# Altium footprint library resSmd.PcbLib: 25 footprints (part 1 of 2)
Each footprint in its own frame and in the unit in brackets; x right, y up, seen from the top. Pads: shape width x height; smd on the part's side, far side on the other; paste and mask are expansions set on the pad; w line width, h text height; cw(c..) or ccw(c..) is an arc to the next point about the centre after c.
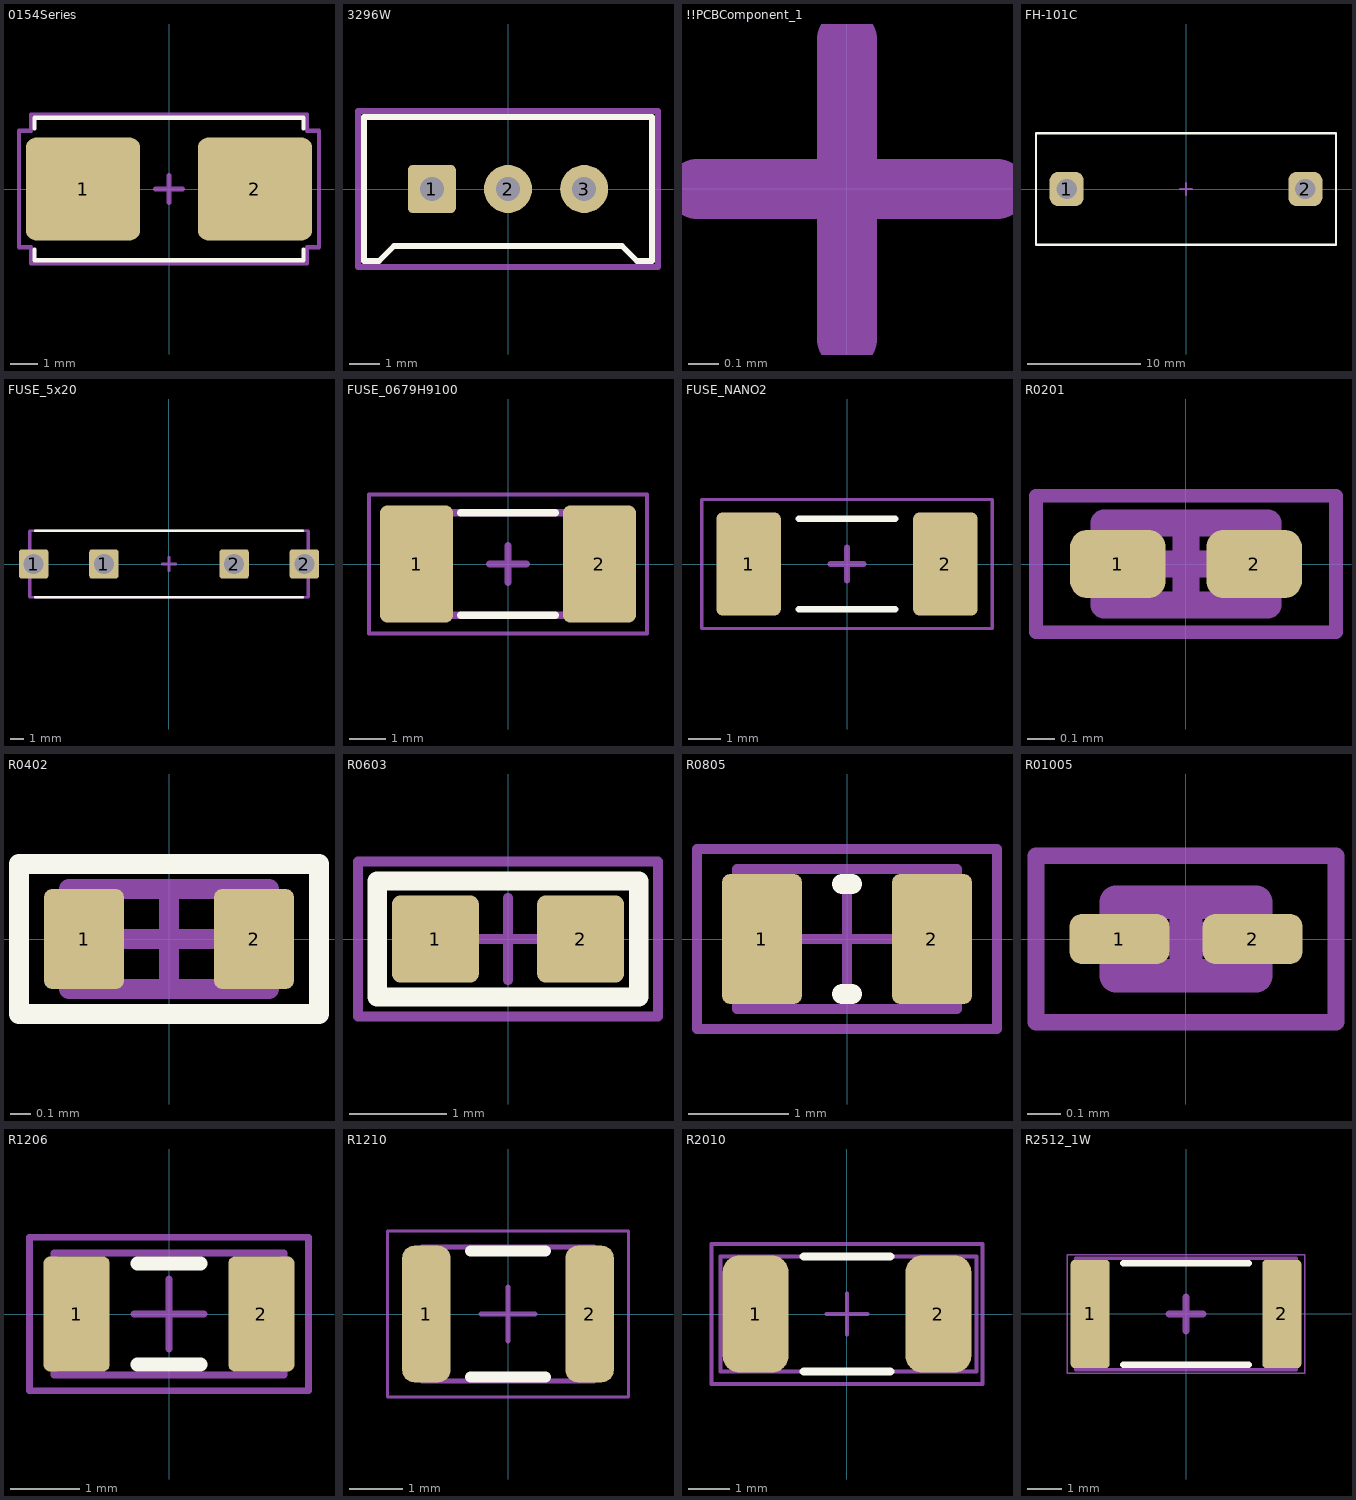
[diagram p0: the footprints below, top view; thin cyan lines are the x and y axes]

## 0154Series [mil] "0154010.DR"
pads (2):
  rrect20% 167x150 smd: 1(-125.5,0) 2(125.5,0)
Top Overlay:
  lines w6: -196.5,-88.1 -196.5,-104 196.5,-104 196.5,-88.1 ; -196.5,88.1 -196.5,104 196.5,104 196.5,88.1
M3_comm_top:
  text ".comment" at -35.43,-11.81 h39.37
M5_asm_top:
  text ".Designator" at -39.37,51.18 h39.37
M7_courtyard_top:
  lines w7.87: -19.68,0 19.69,0 ; 0,-19.69 0,19.68
Mechanical 15:
  lines w6: -219,-85 -201.5,-85 -201.5,-109 201.5,-109 201.5,-85 219,-85 219,85 201.5,85 201.5,109 -201.5,109 -201.5,85 -219,85 -219,-85
3D body "Littlefuse 0154 Holder and Fuse.STEP": height 147.08, standoff 1.41, extent -190.94,-98.42 190.95,98.43

## 3296W [mm] "3296W-1-205LF"
height 0.9
pads (3):
  rrect20% 1.6x1.6 hole 0.8: 1(-2.54,0)
  round 1.6 hole 0.8: 2(0,0) 3(2.54,0)
Top Overlay:
  lines w0.2: -4.8,-2.4 -4.8,2.4 4.8,2.4 4.8,-2.4 4.3,-2.4 3.8,-1.9 -3.8,-1.9 -4.3,-2.4 -4.8,-2.4
M3_comm_top:
  text ".comment" at -0.9,-0.3 h1
M5_asm_top:
  lines w0.1: -4.8,-2.4 -4.8,2.4 4.8,2.4 4.8,-2.4 4.3,-2.4 3.8,-1.9 -3.8,-1.9 -4.3,-2.4 -4.8,-2.4
  text ".Designator" at -1,1.3 h1
M7_courtyard_top:
  lines w0.2: -0.5,0 0.5,0 ; 0,-0.5 0,0.5 ; -5,-2.6 -5,2.6 5,2.6 5,-2.6 -5,-2.6
3D body "User Library-Trimming Potentiometer Vertical 3296W 504 - 500k.step": height 11.67, standoff -6.36, extent -4.765,-2.415 4.765,2.415

## !!PCBComponent_1 [mm]
M3_comm_top:
  text ".comment" at -0.9,-0.3 h1
M5_asm_top:
  text ".Designator" at -1,1.3 h1
M7_courtyard_top:
  lines w0.2: -0.5,0 0.5,0 ; 0,-0.5 0,0.5

## FH-101C [mm] "0.5W"
height 0.9
pads (2):
  rrect50% 3x3 hole 1.8: 1(-10.5,0) 2(10.5,0)
Top Overlay:
  lines w0.2: -13.2,-4.9 13.2,-4.9 13.2,4.9 -13.2,4.9 -13.2,-4.9
M3_comm_top:
  text ".comment" at -0.9,-0.3 h1
M5_asm_top:
  text ".Designator" at -1,1.3 h1
M7_courtyard_top:
  lines w0.2: -0.5,0 0.5,0 ; 0,-0.5 0,0.5
Mechanical 13:
  lines w0.1: -13.2,-4.9 13.2,-4.9 13.2,4.9 -13.2,4.9 -13.2,-4.9
Mechanical 15:
  lines w0.05: -13.2,-4.9 13.2,-4.9 13.2,4.9 -13.2,4.9 -13.2,-4.9
  lines w0.1: -0.5,0 0.5,0 ; 0,-0.5 0,0.5
3D body "FH-101C.step": height 13.4, standoff -3, extent -13.25,-4.9 13.25,4.9

## FUSE_5x20 [mm]
height 0.025
pads (4):
  rrect20% 2.2x2.2 hole 1.5 mask+0.05: 1(-10.125,0) 1(-4.875,0) 2(4.875,0) 2(10.125,0)
Top Overlay:
  lines w0.2: -10,-2.5 10,-2.5 ; -10,2.5 10,2.5
M3_comm_top:
  text ".comment" at -0.9,-0.3 h1
M5_asm_top:
  lines w0.2: -10.4,-2.5 -10.4,2.5 10.4,2.5 10.4,-2.5 -10.4,-2.5
  text ".Designator" at -1,1.4 h1
M7_courtyard_top:
  lines w0.1: -10.5,-2.5 10.5,-2.5 10.5,2.5 -10.5,2.5 -10.5,-2.5
  lines w0.2: -0.5,0 0.5,0 ; 0,-0.5 0,0.5
Mechanical 15:
  lines w0.1: -0.5,0 0.5,0 ; 0,-0.5 0,0.5
3D body "User Library-Clips FH-100 with fuse 5x20.STEP": height 9.99, standoff -3.5, extent -10.4,-3.5 10.4,3.5

## FUSE_0679H9100 [mm] "0679H9100"
height 0.025
pads (2):
  rrect20% 2x3.2 smd mask+0.152: 1(-2.5,0) 2(2.5,0)
Top Overlay:
  lines w0.2: -1.3,-1.4 1.3,-1.4 ; -1.3,1.4 1.3,1.4
M3_comm_top:
  text ".comment" at -0.9,-0.3 h1
M5_asm_top:
  lines w0.2: -2.5,-1.4 2.5,-1.4 2.5,1.4 -2.5,1.4 -2.5,-1.3
  text ".Designator" at -1,1.4 h1
M7_courtyard_top:
  lines w0.1: -3.8,-1.9 -3.8,1.9 3.8,1.9 3.8,-1.9 -3.8,-1.9
  lines w0.2: -0.5,0 0.5,0 ; 0,-0.5 0,0.5
Mechanical 15:
  lines w0.1: -0.5,0 0.5,0 ; 0,-0.5 0,0.5
3D body "User Library-FUSE_NANO2.step": height 2.7, standoff 0, extent -3.05,-1.35 3.05,1.35

## FUSE_NANO2 [mm]
height 0.025
pads (2):
  rrect20% 2x3.2 smd mask+0.152: 1(-3.05,0) 2(3.05,0)
Top Overlay:
  lines w0.2: -1.5,-1.4 1.5,-1.4 ; -1.5,1.4 1.5,1.4
M3_comm_top:
  text ".comment" at -0.9,-0.3 h1
M5_asm_top:
  text ".Designator" at -1,1.3 h1
M7_courtyard_top:
  lines w0.2: -0.5,0 0.5,0 ; 0,-0.5 0,0.5
Mechanical 15:
  lines w0.1: -0.5,0 0.5,0 ; 0,-0.5 0,0.5 ; -4.5,-2 -4.5,2 4.5,2 4.5,-2 -4.5,-2
3D body "User Library-FUSE_NANO2.step": height 2.7, standoff 0, extent -3.05,-1.35 3.05,1.35

## R0201 [mm] "Chip Resistor, IPC High Density"
height 0.28
pads (2):
  rrect50% 0.35x0.25 smd mask+0.025: 1(-0.25,0) 2(0.25,0)
Mechanical 13:
  lines w0.1: -0.3,-0.15 -0.3,0.15 0.3,0.15 0.3,-0.15 -0.3,-0.15
Mechanical 15:
  lines w0.05: -0.55,-0.25 -0.55,0.25 0.55,0.25 0.55,-0.25 -0.55,-0.25
  lines w0.1: -0.15,0 0.15,0 ; 0,-0.15 0,0.15
3D body: height 0.28, standoff 0, extent -0.12,-0.15 0.12,0.15
3D body: height 0.28, standoff 0, extent -0.3,-0.15 -0.12,0.15
3D body: height 0.28, standoff 0, extent 0.12,-0.15 0.3,0.15

## R0402 [mm] "Chip Resistor, IPC High Density"
height 0.35
pads (2):
  rrect20% 0.4x0.5 smd mask+0.05: 1(-0.425,0) 2(0.425,0)
Top Overlay:
  lines w0.1: -0.75,-0.375 -0.75,0.375 0.75,0.375 0.75,-0.375 -0.75,-0.375
M3_comm_top:
  text ".comment" at -0.5,-0.25 h0.5
M5_asm_top:
  lines w0.1: -0.75,-0.375 -0.75,0.375 0.75,0.375 0.75,-0.375 -0.75,-0.375
  text ".Designator" at -0.7,0.6 h0.5
M7_courtyard_top:
  lines w0.1: -0.25,0 0.25,0 ; 0,-0.25 0,0.25 ; -0.75,-0.375 0.75,-0.375 0.75,0.375 -0.75,0.375 -0.75,-0.375
Mechanical 13:
  lines w0.1: -0.5,-0.25 0.5,-0.25 0.5,0.25 -0.5,0.25 -0.5,-0.25
3D body "-R_0402.step": height 0.35, standoff 0, extent -0.5,-0.25 0.5,0.25

## R0603 [mm] "Chip Resistor, IPC Medium Density"
height 0.5
pads (2):
  rrect20% 0.9x0.9 smd mask+0.05: 1(-0.75,0) 2(0.75,0)
Top Overlay:
  lines w0.2: -1.35,-0.6 -1.35,0.6 1.35,0.6 1.35,-0.6 -1.35,-0.6
M3_comm_top:
  text ".comment" at -0.9,-0.3 h1
M5_asm_top:
  lines w0.1: -1.35,-0.6 1.35,-0.6 1.35,0.6 -1.35,0.6 -1.35,-0.6
  text ".Designator" at -1.525,0.95 h1
M7_courtyard_top:
  lines w0.1: -0.425,0 0.425,0 ; 0,-0.425 0,0.425 ; -1.55,-0.8 1.55,-0.8 1.55,0.8 -1.55,0.8 -1.55,-0.8
3D body "RESC1608.STEP": height 0.5, standoff 0, extent -0.8,-0.4 0.8,0.4

## R0805 [mm] "Chip Resistor, IPC High Density"
height 0.5
pads (2):
  rrect20% 0.8x1.3 smd mask+0.05: 1(-0.85,0) 2(0.85,0)
Top Overlay:
  lines w0.2: -0.05,-0.55 0.05,-0.55 ; -0.05,0.55 0.05,0.55
M3_comm_top:
  text ".comment" at -0.9,-0.3 h1
M5_asm_top:
  lines w0.1: -1.1,-0.7 1.1,-0.7 1.1,0.7 -1.1,0.7 -1.1,-0.7
  text ".Designator" at -1,1.3 h1
M7_courtyard_top:
  lines w0.1: -0.5,0 0.5,0 ; 0,-0.5 0,0.5 ; -1.5,-0.9 1.5,-0.9 1.5,0.9 -1.5,0.9 -1.5,-0.9
3D body "RESC2012.STEP": height 0.5, standoff 0, extent -1,-0.6 1,0.6

## R01005 [mm] "Chip Resistor, IPC High Density"
height 0.15
pads (2):
  rrect50% 0.3x0.15 smd: 1(-0.2,0) 2(0.2,0)
Mechanical 13:
  lines w0.1: -0.21,-0.11 -0.21,0.11 0.21,0.11 0.21,-0.11 -0.21,-0.11
Mechanical 15:
  lines w0.05: -0.45,-0.25 -0.45,0.25 0.45,0.25 0.45,-0.25 -0.45,-0.25
  lines w0.1: -0.11,0 0.11,0 ; 0,-0.11 0,0.11
3D body: height 0.15, standoff 0, extent -0.11,-0.11 0.11,0.11
3D body: height 0.15, standoff 0, extent -0.21,-0.11 -0.11,0.11
3D body: height 0.15, standoff 0, extent 0.11,-0.11 0.21,0.11

## R1206 [mm] "Chip Resistor, IPC High Density"
height 0.6
pads (2):
  rrect20% 0.95x1.65 smd mask+0.05: 1(-1.325,0) 2(1.325,0)
Top Overlay:
  lines w0.2: -0.45,-0.725 0.45,-0.725 ; -0.45,0.725 0.45,0.725
M3_comm_top:
  text ".comment" at -0.9,-0.3 h1
M5_asm_top:
  lines w0.1: -1.65,-0.875 1.65,-0.875 1.65,0.875 -1.65,0.875 -1.65,-0.875
  text ".Designator" at -1,1.3 h1
M7_courtyard_top:
  lines w0.1: -0.5,0 0.5,0 ; 0,-0.5 0,0.5 ; -2,-1.1 2,-1.1 2,1.1 -2,1.1 -2,-1.1
3D body "RESC3216.STEP": height 0.6, standoff 0, extent -1.6,-0.8 1.6,0.8

## R1210 [mm] "1210, IPC Medium Density"
height 0.6
pads (2):
  rrect50% 0.9x2.55 smd: 1(-1.525,0) 2(1.525,0)
Top Overlay:
  lines w0.2: -0.7,-1.175 0.7,-1.175 ; -0.7,1.175 0.7,1.175
Mechanical 13:
  lines w0.1: -1.6,-1.25 -1.6,1.25 1.6,1.25 1.6,-1.25 -1.6,-1.25
Mechanical 15:
  lines w0.05: -2.25,-1.55 -2.25,1.55 2.25,1.55 2.25,-1.55 -2.25,-1.55
  lines w0.1: -0.5,0 0.5,0 ; 0,-0.5 0,0.5
3D body "R1210.step": height 0.55, standoff 0, extent -1.6,-1.25 1.6,1.25

## R2010 [mm] "RC2010JK-070RL , Chip Resistor, IPC Medium Density"
height 0.9
pads (2):
  rrect50% 1.6x2.85 smd: 1(-2.225,0) 2(2.225,0)
Top Overlay:
  lines w0.2: -1.05,-1.4 1.05,-1.4 ; -1.05,1.4 1.05,1.4
M3_comm_top:
  text ".comment" at 0,0 h1
M5_asm_top:
  lines w0.1: -3.075,-1.4 3.15,-1.4 3.15,1.4 -1,1.4 -3.075,1.4 -3.075,-1.4
  text ".Designator" at -1.175,1.775 h1
M7_courtyard_top:
  lines w0.1: -0.5,0 0.5,0 ; 0,-0.5 0,0.5 ; -3.3,-1.7 -3.3,1.7 3.3,1.7 3.3,-1.7 -3.3,-1.7
3D body "R2010-1.step": height 0.55, standoff 0, extent -2.5,-1.26 2.5,1.26

## R2512_1W [mm] "1W_IPC High Density"
height 0.7
pads (2):
  rrect20% 1.15x3.2 smd: 1(-2.825,0) 2(2.825,0)
Top Overlay:
  lines w0.2: -1.85,-1.5 1.85,-1.5 ; -1.85,1.5 1.85,1.5
M3_comm_top:
  text ".comment" at -0.9,-0.3 h1
M5_asm_top:
  lines w0.1: -3.25,-1.65 3.25,-1.65 3.25,1.65 -3.25,1.65 -3.25,-1.65
  text ".Designator" at -1,0.6 h1
M7_courtyard_top:
  lines w0.05: -3.5,-1.75 3.5,-1.75 3.5,1.75 -3.5,1.75 -3.5,-1.75
  lines w0.2: -0.5,0 0.5,0 ; 0,-0.5 0,0.5
3D body "User Library-res2512_body.STEP": height 0.62, standoff 0, extent -3.159,-1.6 3.16,1.6